# Altium schematic symbol library ledsayici.SchLib: 4 symbols
Pins are listed as number, name and electrical type; pins without a type are passive.

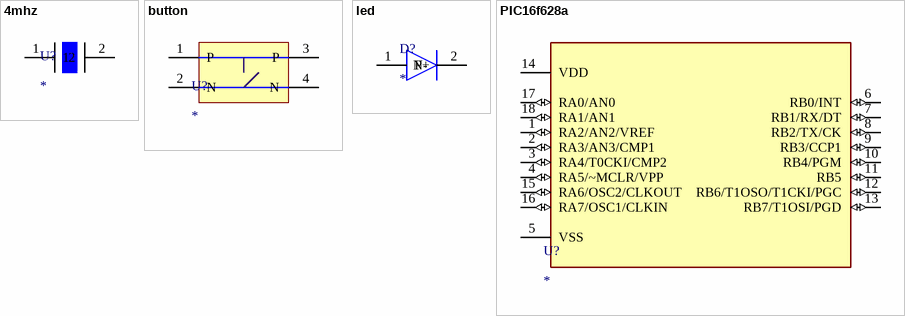
[diagram p0: symbols 4mhz to PIC16f628a]

## 4mhz
designator U?
footprint 4mhz
pins: 1, 2

## button
designator U?
footprint buton
pins: 1 P, 2 N, 3 P, 4 N

## led
designator D?
footprint led
pins: 1 P+, 2 N-

## PIC16f628a
designator U?
footprint PCBComponent_1
pins: 1 RA2/AN2/VREF (io), 2 RA3/AN3/CMP1 (io), 3 RA4/T0CKI/CMP2 (io), 4 RA5/~MCLR/VPP (io), 5 VSS (power), 6 RB0/INT (io), 7 RB1/RX/DT (io), 8 RB2/TX/CK (io), 9 RB3/CCP1 (io), 10 RB4/PGM (io), 11 RB5 (io), 12 RB6/T1OSO/T1CKI/PGC (io), 13 RB7/T1OSI/PGD (io), 14 VDD (power), 15 RA6/OSC2/CLKOUT (io), 16 RA7/OSC1/CLKIN (io), 17 RA0/AN0 (io), 18 RA1/AN1 (io)